# EAGLE library part AD7173 (library AD7173)
IEEE 802.15.4? 2.4 GHz RF Transceiver Source: http://ww1.microchip.com/downloads/en/DeviceDoc/39776a.pdf
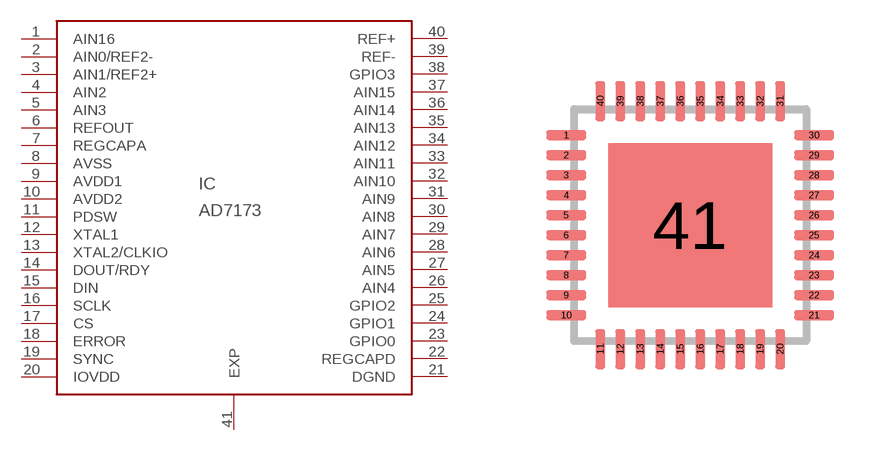
[diagram p0: symbol with the pads of LFCSP_WQ6X6MM; footprint LFCSP_WQ6X6MM]

Designator prefix IC

## AD7173 (MPN: MRF24J40-I/ML; OC_FARNELL: 1436019; OC_NEWARK: 17M0699)  [LFCSP_WQ6X6MM]
1  AIN16  in
2  AIN0/REF2-  in
3  AIN1/REF2+  in
4  AIN2  in
5  AIN3  in
6  REFOUT  out
7  REGCAPA  in
8  AVSS  in
9  AVDD1  in
10  AVDD2  in
11  PDSW  in
12  XTAL1  in
13  XTAL2/CLKIO  in
14  DOUT/RDY  out
15  DIN  in
16  SCLK  in
17  CS  in
18  ERROR  in
19  SYNC  in
20  IOVDD  in
21  DGND  in
22  REGCAPD  in
23  GPIO0
24  GPIO1
25  GPIO2
26  AIN4  in
27  AIN5  in
28  AIN6  in
29  AIN7  in
30  AIN8  in
31  AIN9  in
32  AIN10  in
33  AIN11  in
34  AIN12  in
35  AIN13  in
36  AIN14  in
37  AIN15  in
38  GPIO3
39  REF-  in
40  REF+  in
41  EXP  out

## Footprint LFCSP_WQ6X6MM (pad centres in mm)
40-Lead Plastic Quad Flat 6x6x0.9 mm Body [QFN] With 0.40 mm Contact Length Source: http://ww1.microchip.com/downloads/en/DeviceDoc/39776a.pdf
smd 1 x 0.25: 1 -3.1,2.25; 2 -3.1,1.75; 3 -3.1,1.25; 4 -3.1,0.75; 5 -3.1,0.25; 6 -3.1,-0.25; 7 -3.1,-0.75; 8 -3.1,-1.25; 9 -3.1,-1.75; 10 -3.1,-2.25; 21 3.1,-2.25; 22 3.1,-1.75; 23 3.1,-1.25; 24 3.1,-0.75; 25 3.1,-0.25; 26 3.1,0.25; 27 3.1,0.75; 28 3.1,1.25; 29 3.1,1.75; 30 3.1,2.25
smd 0.25 x 1: 11 -2.25,-3.1; 12 -1.75,-3.1; 13 -1.25,-3.1; 14 -0.75,-3.1; 15 -0.25,-3.1; 16 0.25,-3.1; 17 0.75,-3.1; 18 1.25,-3.1; 19 1.75,-3.1; 20 2.25,-3.1; 31 2.25,3.1; 32 1.75,3.1; 33 1.25,3.1; 34 0.75,3.1; 35 0.25,3.1; 36 -0.25,3.1; 37 -0.75,3.1; 38 -1.25,3.1; 39 -1.75,3.1; 40 -2.25,3.1
smd 4.1 x 4.1: 41 0,0